# EAGLE library part FT200XD-T (library alvie)
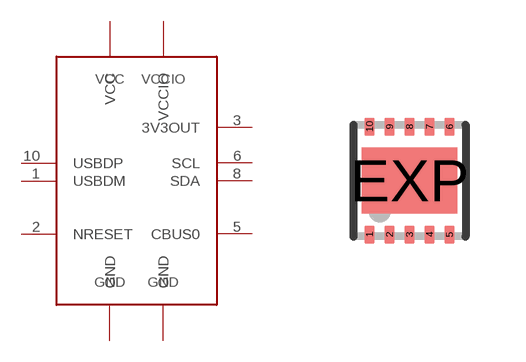
[diagram p2: symbol with the pads of DFN10-3X3; footprint DFN10-3X3]

Designator prefix -

## FT200XD-T  [DFN10-3X3]
1  USBDM
2  NRESET  in
3  3V3OUT  pwr
4  VCC  pwr
5  CBUS0
6  SCL
7  VCCIO  pwr
8  SDA
9  GND  pwr
10  USBDP
EXP  GND  pwr

## Footprint DFN10-3X3 (pad centres in mm)
smd 0.25 x 0.45: 1 -1,-1.35; 2 -0.5,-1.35; 3 0,-1.35; 4 0.5,-1.35; 5 1,-1.35; 6 1,1.35; 7 0.5,1.35; 8 0,1.35; 9 -0.5,1.35; 10 -1,1.35
smd 2.38 x 1.65: EXP 0,0